# Altium integrated library OPTOCOUPLER EL817S1.IntLib: 1 symbol
Pins are listed as number, name and electrical type; pins without a type are passive.

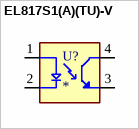
[diagram p0: symbol EL817S1(A)(TU)-V]

## EL817S1(A)(TU)-V
designator U?
Optoisoltr 5kv Transistor 4-Smd; MF: {'manufacturer': u'Everlight Electronics Co Ltd'}; MP: EL817S1(A)(TU)-V; Package: None; Price: None; Value: *; Availability: Unavailable
footprint SOIC254P1030X390-4N_EL817S1(A)(TU)-V
pins: 1 A, 2 C, 3 ET, 4 CT